# Altium footprint library LQFP.PcbLib: 6 footprints
Each footprint in its own frame and in the unit in brackets; x right, y up, seen from the top. Pads: shape width x height; smd on the part's side, far side on the other; paste and mask are expansions set on the pad; w line width, h text height; cw(c..) or ccw(c..) is an arc to the next point about the centre after c.
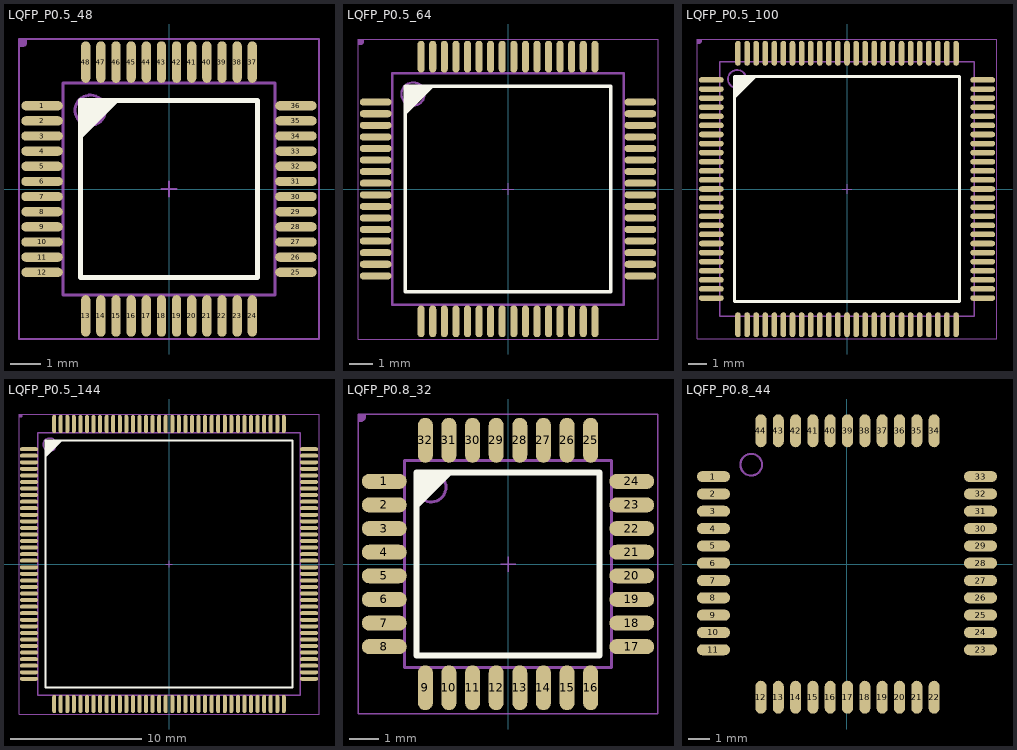
[diagram p0: the footprints below, top view; thin cyan lines are the x and y axes]

## LQFP_P0.5_48 [mil]
height 62.99
pads (48):
  oval 54x12 smd: 1(-165,108.27) 2(-165,88.58) 3(-165,68.9) 4(-165,49.21) 5(-165,29.53) 6(-165,9.84) 7(-165,-9.84) 8(-165,-29.53) 9(-165,-49.21) 10(-165,-68.9) 11(-165,-88.58) 12(-165,-108.27) 25(165,-108.27) 26(165,-88.58) 27(165,-68.9) 28(165,-49.21) 29(165,-29.53) 30(165,-9.84) 31(165,9.84) 32(165,29.53) 33(165,49.21) 34(165,68.9) 35(165,88.58) 36(165,108.27)
  oval 12x54 smd: 13(-108.27,-165) 14(-88.58,-165) 15(-68.9,-165) 16(-49.21,-165) 17(-29.53,-165) 18(-9.84,-165) 19(9.84,-165) 20(29.53,-165) 21(49.21,-165) 22(68.9,-165) 23(88.58,-165) 24(108.27,-165) 37(108.27,165) 38(88.58,165) 39(68.9,165) 40(49.21,165) 41(29.53,165) 42(9.84,165) 43(-9.84,165) 44(-29.53,165) 45(-49.21,165) 46(-68.9,165) 47(-88.58,165) 48(-108.27,165)
Top Overlay:
  region: -115,115 -65,115 -115,65
  lines w6: -115,-115 -115,115 115,115 115,-115 -115,-115
Mechanical 13:
  circle w3.94: c-102.36,102.36 r19.68
  lines w2: -10,0 10,0 ; 0,-10 0,10
  lines w3.94: -137.8,-137.8 -137.8,137.8 137.8,137.8 137.8,-137.8 -137.8,-137.8
Mechanical 14:
  region: -195,195 -185,195 -185,190 -185,189.01 -185.76,187.17 -187.17,185.76 -189.01,185 -190,185 -195,185
  lines w2: -195,-195 195,-195 195,195 -195,195 -195,-195
  text ".Designator" at -41,-25 h100
3D body "SW3dPS-Quad50M48.STEP": height 61.42, standoff 0, extent -177.16,-177.66 177.17,176.67

## LQFP_P0.5_64 [mil]
height 47.24
pads (64):
  oval 54x12 smd: 1(-225,147.64) 2(-225,127.95) 3(-225,108.27) 4(-225,88.58) 5(-225,68.9) 6(-225,49.21) 7(-225,29.53) 8(-225,9.84) 9(-225,-9.84) 10(-225,-29.53) 11(-225,-49.21) 12(-225,-68.9) 13(-225,-88.58) 14(-225,-108.27) 15(-225,-127.95) 16(-225,-147.64) 33(225,-147.64) 34(225,-127.95) 35(225,-108.27) 36(225,-88.58) 37(225,-68.9) 38(225,-49.21) 39(225,-29.53) 40(225,-9.84) 41(225,9.84) 42(225,29.53) 43(225,49.21) 44(225,68.9) 45(225,88.58) 46(225,108.27) 47(225,127.95) 48(225,147.64)
  oval 12x54 smd: 17(-147.64,-225) 18(-127.95,-225) 19(-108.27,-225) 20(-88.58,-225) 21(-68.9,-225) 22(-49.21,-225) 23(-29.53,-225) 24(-9.84,-225) 25(9.84,-225) 26(29.53,-225) 27(49.21,-225) 28(68.9,-225) 29(88.58,-225) 30(108.27,-225) 31(127.95,-225) 32(147.64,-225) 49(147.64,225) 50(127.95,225) 51(108.27,225) 52(88.58,225) 53(68.9,225) 54(49.21,225) 55(29.53,225) 56(9.84,225) 57(-9.84,225) 58(-29.53,225) 59(-49.21,225) 60(-68.9,225) 61(-88.58,225) 62(-108.27,225) 63(-127.95,225) 64(-147.64,225)
Top Overlay:
  region: -175,175 -125,175 -175,125
  lines w6: -175,-175 175,-175 175,175 -175,175 -175,-175
Mechanical 13:
  circle w3.94: c-161.42,161.42 r19.68
  lines w2: -10,0 10,0 ; 0,-10 0,10
  lines w3.94: -196.85,-196.85 -196.85,196.85 196.85,196.85 196.85,-196.85 -196.85,-196.85
Mechanical 14:
  region: -255,255 -245,255 -245,250 -245,249.01 -245.76,247.17 -247.17,245.76 -249.01,245 -250,245 -255,245
  lines w2: -255,-255 -255,255 255,255 255,-255 -255,-255
  text ".Designator" at -41,-25 h100
3D body "User Library-lqpf64.STEP": height 59.06, standoff 0.79, extent -236.21,-236.22 236.23,236.22

## LQFP_P0.5_100 [mil]
height 62.99
pads (100):
  oval 54x12 smd: 1(-294,236.22) 2(-294,216.54) 3(-294,196.85) 4(-294,177.17) 5(-294,157.48) 6(-294,137.8) 7(-294,118.11) 8(-294,98.43) 9(-294,78.74) 10(-294,59.06) 11(-294,39.37) 12(-294,19.68) 13(-294,0) 14(-294,-19.69) 15(-294,-39.37) 16(-294,-59.06) 17(-294,-78.74) 18(-294,-98.43) 19(-294,-118.11) 20(-294,-137.8) 21(-294,-157.48) 22(-294,-177.17) 23(-294,-196.85) 24(-294,-216.54) 25(-294,-236.22) 51(294,-236.22) 52(294,-216.54) 53(294,-196.85) 54(294,-177.17) 55(294,-157.48) 56(294,-137.8) 57(294,-118.11) 58(294,-98.43) 59(294,-78.74) 60(294,-59.06) 61(294,-39.37) 62(294,-19.69) 63(294,0) 64(294,19.68) 65(294,39.37) 66(294,59.06) 67(294,78.74) 68(294,98.43) 69(294,118.11) 70(294,137.8) 71(294,157.48) 72(294,177.17) 73(294,196.85) 74(294,216.54) 75(294,236.22)
  oval 12x54 smd: 26(-236.22,-294) 27(-216.54,-294) 28(-196.85,-294) 29(-177.17,-294) 30(-157.48,-294) 31(-137.8,-294) 32(-118.11,-294) 33(-98.43,-294) 34(-78.74,-294) 35(-59.06,-294) 36(-39.37,-294) 37(-19.68,-294) 38(0,-294) 39(19.69,-294) 40(39.37,-294) 41(59.06,-294) 42(78.74,-294) 43(98.43,-294) 44(118.11,-294) 45(137.8,-294) 46(157.48,-294) 47(177.17,-294) 48(196.85,-294) 49(216.54,-294) 50(236.22,-294) 76(236.22,294) 77(216.54,294) 78(196.85,294) 79(177.17,294) 80(157.48,294) 81(137.8,294) 82(118.11,294) 83(98.43,294) 84(78.74,294) 85(59.06,294) 86(39.37,294) 87(19.69,294) 88(0,294) 89(-19.68,294) 90(-39.37,294) 91(-59.06,294) 92(-78.74,294) 93(-98.43,294) 94(-118.11,294) 95(-137.8,294) 96(-157.48,294) 97(-177.17,294) 98(-196.85,294) 99(-216.54,294) 100(-236.22,294)
Top Overlay:
  region: -244,244 -194,244 -244,194
  lines w6: -244,-244 -244,244 244,244 244,-244 -244,-244
Mechanical 13:
  circle w3.94: c-238.19,238.19 r19.68
  lines w2: -10,0 10,0 ; 0,-10 0,10
  lines w3.94: -275.59,-275.59 275.59,-275.59 275.59,275.59 -275.59,275.59 -275.59,-275.59
Mechanical 14:
  region: -325,325 -315,325 -315,320 -315,319.01 -315.76,317.17 -317.17,315.76 -319.01,315 -320,315 -325,315
  lines w2: -325,-325 -325,325 325,325 325,-325 -325,-325
  text ".Designator" at -41,-25 h100
3D body "User Library-LQFP100-0_5.STEP": height 61.5, standoff -0.39, extent -310.47,-310.47 310.49,310.48

## LQFP_P0.5_144 [mil]
height 62.99
pads (144):
  oval 54x12 smd: 1(-420,344.49) 2(-420,324.8) 3(-420,305.12) 4(-420,285.43) 5(-420,265.75) 6(-420,246.06) 7(-420,226.38) 8(-420,206.69) 9(-420,187.01) 10(-420,167.32) 11(-420,147.64) 12(-420,127.95) 13(-420,108.27) 14(-420,88.58) 15(-420,68.9) 16(-420,49.21) 17(-420,29.53) 18(-420,9.84) 19(-420,-9.84) 20(-420,-29.53) 21(-420,-49.21) 22(-420,-68.9) 23(-420,-88.58) 24(-420,-108.27) 25(-420,-127.95) 26(-420,-147.64) 27(-420,-167.32) 28(-420,-187.01) 29(-420,-206.69) 30(-420,-226.38) 31(-420,-246.06) 32(-420,-265.75) 33(-420,-285.43) 34(-420,-305.12) 35(-420,-324.8) 36(-420,-344.49) 73(420,-344.49) 74(420,-324.8) 75(420,-305.12) 76(420,-285.43) 77(420,-265.75) 78(420,-246.06) 79(420,-226.38) 80(420,-206.69) 81(420,-187.01) 82(420,-167.32) 83(420,-147.64) 84(420,-127.95) 85(420,-108.27) 86(420,-88.58) 87(420,-68.9) 88(420,-49.21) 89(420,-29.53) 90(420,-9.84) 91(420,9.84) 92(420,29.53) 93(420,49.21) 94(420,68.9) 95(420,88.58) 96(420,108.27) 97(420,127.95) 98(420,147.64) 99(420,167.32) 100(420,187.01) 101(420,206.69) 102(420,226.38) 103(420,246.06) 104(420,265.75) 105(420,285.43) 106(420,305.12) 107(420,324.8) 108(420,344.49)
  oval 12x54 smd: 37(-344.49,-420) 38(-324.8,-420) 39(-305.12,-420) 40(-285.43,-420) 41(-265.75,-420) 42(-246.06,-420) 43(-226.38,-420) 44(-206.69,-420) 45(-187.01,-420) 46(-167.32,-420) 47(-147.64,-420) 48(-127.95,-420) 49(-108.27,-420) 50(-88.58,-420) 51(-68.9,-420) 52(-49.21,-420) 53(-29.53,-420) 54(-9.84,-420) 55(9.84,-420) 56(29.53,-420) 57(49.21,-420) 58(68.9,-420) 59(88.58,-420) 60(108.27,-420) 61(127.95,-420) 62(147.64,-420) 63(167.32,-420) 64(187.01,-420) 65(206.69,-420) 66(226.38,-420) 67(246.06,-420) 68(265.75,-420) 69(285.43,-420) 70(305.12,-420) 71(324.8,-420) 72(344.49,-420) 109(344.49,420) 110(324.8,420) 111(305.12,420) 112(285.43,420) 113(265.75,420) 114(246.06,420) 115(226.38,420) 116(206.69,420) 117(187.01,420) 118(167.32,420) 119(147.64,420) 120(127.95,420) 121(108.27,420) 122(88.58,420) 123(68.9,420) 124(49.21,420) 125(29.53,420) 126(9.84,420) 127(-9.84,420) 128(-29.53,420) 129(-49.21,420) 130(-68.9,420) 131(-88.58,420) 132(-108.27,420) 133(-127.95,420) 134(-147.64,420) 135(-167.32,420) 136(-187.01,420) 137(-206.69,420) 138(-226.38,420) 139(-246.06,420) 140(-265.75,420) 141(-285.43,420) 142(-305.12,420) 143(-324.8,420) 144(-344.49,420)
Top Overlay:
  region: -370,370 -320,370 -370,320
  lines w6: -370,-370 370,-370 370,370 -370,370 -370,-370
Mechanical 13:
  circle w4: c-358.27,358.27 r19.68
  lines w2: -10,0 10,0 ; 0,-10 0,10
  lines w4: -393.7,-393.7 393.7,-393.7 393.7,393.7 -393.7,393.7 -393.7,-393.7
Mechanical 14:
  region: -450,450 -440,450 -440,445 -440,444.01 -440.76,442.17 -442.17,440.76 -444.01,440 -445,440 -450,440
  lines w2: -450,-450 -450,450 450,450 450,-450 -450,-450
  text ".Designator" at -41,-25 h100
3D body "User Library-LQFP144.STEP": height 62.99, standoff 0, extent -433.07,-433.07 433.08,433.08

## LQFP_P0.8_32 [mil]
height 47.24
pads (32):
  oval 60x20 smd: 1(-165,110.24) 2(-165,78.74) 3(-165,47.24) 4(-165,15.75) 5(-165,-15.75) 6(-165,-47.24) 7(-165,-78.74) 8(-165,-110.24) 17(165,-110.24) 18(165,-78.74) 19(165,-47.24) 20(165,-15.75) 21(165,15.75) 22(165,47.24) 23(165,78.74) 24(165,110.24)
  oval 20x60 smd: 9(-110.24,-165) 10(-78.74,-165) 11(-47.24,-165) 12(-15.75,-165) 13(15.75,-165) 14(47.24,-165) 15(78.74,-165) 16(110.24,-165) 25(110.24,165) 26(78.74,165) 27(47.24,165) 28(15.75,165) 29(-15.75,165) 30(-47.24,165) 31(-78.74,165) 32(-110.24,165)
Top Overlay:
  region: -122.05,122.05 -72.05,122.05 -122.05,72.05
  lines w7.87: -122.05,-122.05 122.05,-122.05 122.05,122.05 -122.05,122.05 -122.05,-122.05
Mechanical 13:
  circle w3.94: c-102.36,102.36 r19.68
  lines w2: -10,0 10,0 ; 0,-10 0,10
  lines w3.94: -137.8,-137.8 137.8,-137.8 137.8,137.8 -137.8,137.8 -137.8,-137.8
Mechanical 14:
  region: -200,200 -190,200 -190,195 -190,194.01 -190.76,192.17 -192.17,190.76 -194.01,190 -195,190 -200,190
  lines w2: -200,-200 -200,200 200,200 200,-200 -200,-200
  text ".Designator" at -41,-25 h100
3D body "User Library-LQFP32-0_8.STEP": height 63.46, standoff -2.02, extent -177.92,-177.92 177.93,177.93

## LQFP_P0.8_44 [mil]
height 47.24
pads (44):
  oval 60x20 smd: 1(-242.76,158.96) 2(-242.76,127.46) 3(-242.76,95.96) 4(-242.76,64.47) 5(-242.76,32.97) 6(-242.76,1.48) 7(-242.76,-30.02) 8(-242.76,-61.52) 9(-242.76,-93.01) 10(-242.76,-124.51) 11(-242.76,-156) 23(242.76,-156) 24(242.76,-124.51) 25(242.76,-93.01) 26(242.76,-61.52) 27(242.76,-30.02) 28(242.76,1.48) 29(242.76,32.97) 30(242.76,64.47) 31(242.76,95.96) 32(242.76,127.46) 33(242.76,158.96)
  oval 20x60 smd: 12(-156.5,-242.27) 13(-125,-242.27) 14(-93.5,-242.27) 15(-62.01,-242.27) 16(-30.51,-242.27) 17(0.98,-242.27) 18(32.48,-242.27) 19(63.98,-242.27) 20(95.47,-242.27) 21(126.97,-242.27) 22(158.46,-242.27) 34(158.46,242.27) 35(126.97,242.27) 36(95.47,242.27) 37(63.98,242.27) 38(32.48,242.27) 39(0.98,242.27) 40(-30.51,242.27) 41(-62.01,242.27) 42(-93.5,242.27) 43(-125,242.27) 44(-156.5,242.27)
Mechanical 13:
  circle w3.94: c-174.21,180.61 r19.68
Mechanical 14:
  text ".Designator" at -239.17,-14.27 h100
3D body "User Library-LQFP 44.STEP": height 114.17, standoff -0.98, extent -250.98,-250.49 252.95,253.45